# Altium schematic symbol library Alimentation.SchLib: 2 symbols
Pins are listed as number, name and electrical type; pins without a type are passive.

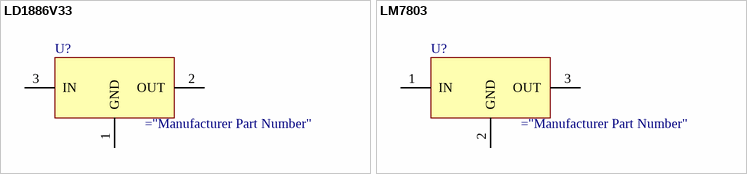
[diagram p0: symbols LD1886V33 to LM7803]

## LD1886V33
designator U?
footprint LM78xx
pins: 1 GND (power), 2 OUT (power), 3 IN (power)

## LM7803
designator U?
footprint LM78xx
pins: 1 IN (power), 2 GND (power), 3 OUT (power)